# EAGLE library part JST-XH-05 (library mastrogippo)
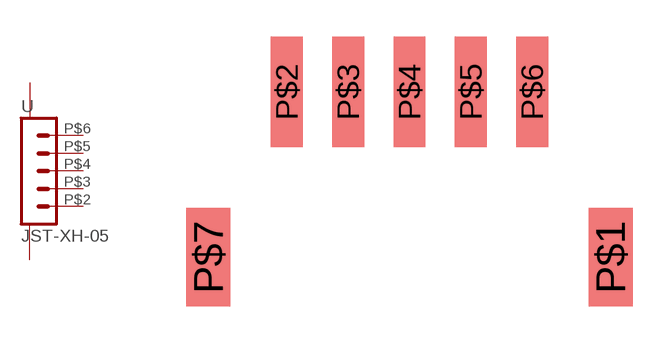
[diagram p22: symbol with the pads of JST-XH-H-5; footprint JST-XH-H-5]

Designator prefix -

## JST-XH-05  [JST-XH-H-5]
P$1  P$1
P$2  1  pas
P$3  2  pas
P$4  3  pas
P$5  4  pas
P$6  5  pas
P$7  P$2

## Footprint JST-XH-H-5 (pad centres in mm)
smd 1.8 x 4: P$1 0.9,2; P$7 -15.5,2
smd 1.3 x 4.5: P$2 -12.3,8.75; P$3 -9.8,8.75; P$4 -7.3,8.75; P$5 -4.8,8.75; P$6 -2.3,8.75